# EAGLE library part W25Q80DV (library low-gain-radio)
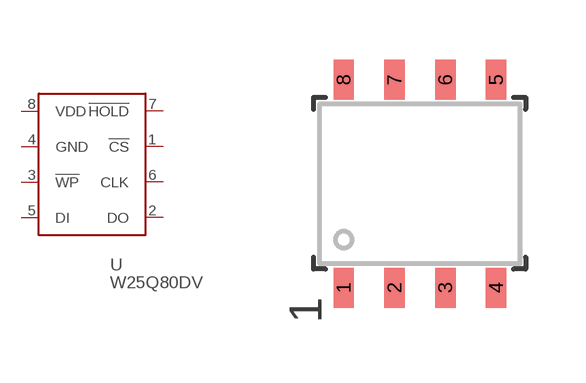
[diagram p7: symbol with the pads of W25Q80DV; footprint W25Q80DV]

Designator prefix -

## W25Q80DV  [W25Q80DV]
1  !CS  in
2  DO  out
3  !WP  in
4  GND  pwr
5  DI  in
6  CLK  in
7  !HOLD  in
8  VDD  pwr

## Footprint W25Q80DV (pad centres in mm)
smd 0.51 x 1: 1 -1.945,-2.568; 2 -0.675,-2.568; 3 0.595,-2.568; 4 1.865,-2.568; 5 1.865,2.632; 6 0.595,2.632; 7 -0.675,2.632; 8 -1.945,2.632